# EAGLE library part LM3S811-IQN50-C2 (library Microcontroller)
IC MCU 32BIT 64KB FLASH 48LQFP Manufacturer's datasheet <https://www.ti.com/lit/ds/symlink/lm3s811.pdf?HQS=dis-dk-null-digikeymode-dsf-pf-null-wwe&ts=1626407236724&ref_url=https%253A%252F%252Fwww.digikey.in%252F>
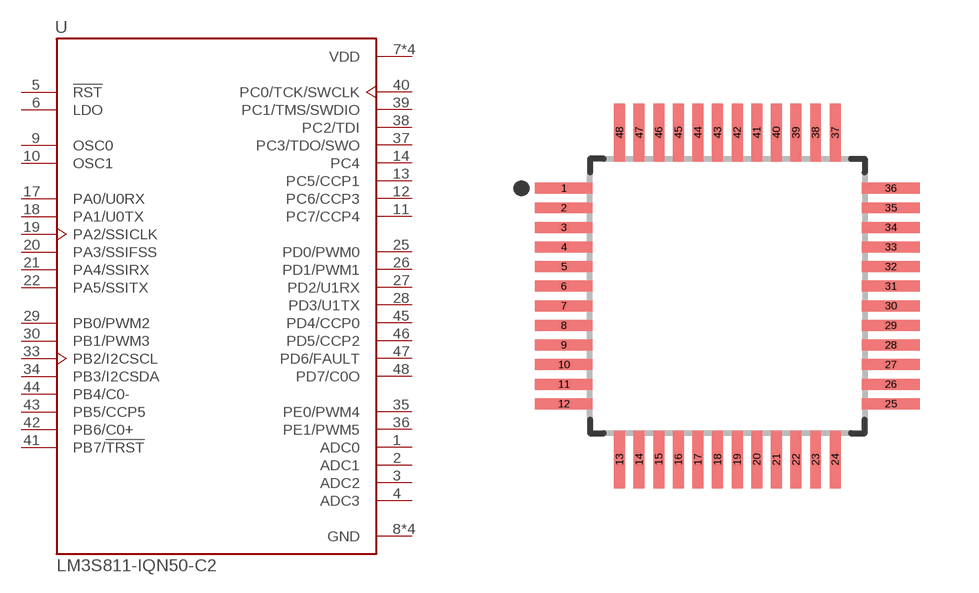
[diagram p19: symbol with the pads of LQFP48(7X7); footprint LQFP48(7X7)]

Designator prefix U

## LM3S811-IQN50-C2 (CREATED_BY: PCBLayout.com; DIGIKEY_PARTNO: 296-24918-ND; MANUFACTURER: Texas Instruments; MPN: LM3S811-IQN50-C2; PACKAGE: LQFP48)  [LQFP48(7X7)]
1  ADC0
2  ADC1
3  ADC2
4  ADC3
5  !RST  in
6  LDO  pas
7  VDD  pwr
8  GND  pwr
9  OSC0  in
10  OSC1  out
11  PC7/CCP4
12  PC6/CCP3
13  PC5/CCP1
14  PC4
15  VDD  pwr
16  GND  pwr
17  PA0/U0RX
18  PA1/U0TX
19  PA2/SSICLK
20  PA3/SSIFSS
21  PA4/SSIRX
22  PA5/SSITX
23  VDD  pwr
24  GND  pwr
25  PD0/PWM0
26  PD1/PWM1
27  PD2/U1RX
28  PD3/U1TX
29  PB0/PWM2
30  PB1/PWM3
31  GND  pwr
32  VDD  pwr
33  PB2/I2CSCL
34  PB3/I2CSDA
35  PE0/PWM4
36  PE1/PWM5
37  PC3/TDO/SWO
38  PC2/TDI
39  PC1/TMS/SWDIO
40  PC0/TCK/SWCLK
41  PB7/!TRST
42  PB6/C0+
43  PB5/CCP5
44  PB4/C0-
45  PD4/CCP0
46  PD5/CCP2
47  PD6/FAULT
48  PD7/C0O

## Footprint LQFP48(7X7) (pad centres in mm)
smd 1.47 x 0.28: 1 -4.17,2.75; 2 -4.17,2.25; 3 -4.17,1.75; 4 -4.17,1.25; 5 -4.17,0.75; 6 -4.17,0.25; 7 -4.17,-0.25; 8 -4.17,-0.75; 9 -4.17,-1.25; 10 -4.17,-1.75; 11 -4.17,-2.25; 12 -4.17,-2.75; 25 4.17,-2.75; 26 4.17,-2.25; 27 4.17,-1.75; 28 4.17,-1.25; 29 4.17,-0.75; 30 4.17,-0.25; 31 4.17,0.25; 32 4.17,0.75; 33 4.17,1.25; 34 4.17,1.75; 35 4.17,2.25; 36 4.17,2.75
smd 0.28 x 1.47: 13 -2.75,-4.17; 14 -2.25,-4.17; 15 -1.75,-4.17; 16 -1.25,-4.17; 17 -0.75,-4.17; 18 -0.25,-4.17; 19 0.25,-4.17; 20 0.75,-4.17; 21 1.25,-4.17; 22 1.75,-4.17; 23 2.25,-4.17; 24 2.75,-4.17; 37 2.75,4.17; 38 2.25,4.17; 39 1.75,4.17; 40 1.25,4.17; 41 0.75,4.17; 42 0.25,4.17; 43 -0.25,4.17; 44 -0.75,4.17; 45 -1.25,4.17; 46 -1.75,4.17; 47 -2.25,4.17; 48 -2.75,4.17